# EAGLE library part IF_USB_PD_TPS65987DDHRSHR (library !GPLIB_ACTIVE)
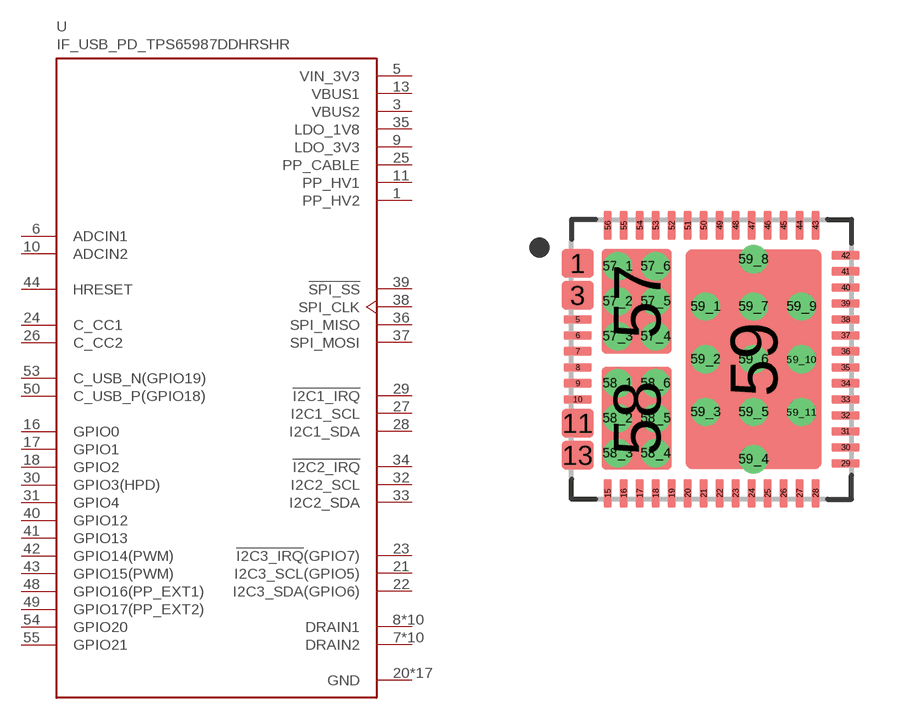
[diagram p42: symbol with the pads of VQFN_56P(7X7); footprint VQFN_56P(7X7)]

Designator prefix U

## IF_USB_PD_TPS65987DDHRSHR  [VQFN_56P(7X7)]
1  PP_HV2  pwr
3  VBUS2  pwr
5  VIN_3V3  pwr
6  ADCIN1  in
7  DRAIN2  pas
8  DRAIN1  pas
9  LDO_3V3  pwr
10  ADCIN2  in
11  PP_HV1  pwr
13  VBUS1  pwr
15  DRAIN1  pas
16  GPIO0
17  GPIO1
18  GPIO2
19  DRAIN1  pas
20  GND  pwr
21  I2C3_SCL(GPIO5)
22  I2C3_SDA(GPIO6)
23  !I2C3_IRQ!(GPIO7)
24  C_CC1
25  PP_CABLE  pwr
26  C_CC2
27  I2C1_SCL
28  I2C1_SDA
29  !I2C1_IRQ  out
30  GPIO3(HPD)
31  GPIO4
32  I2C2_SCL
33  I2C2_SDA
34  !I2C2_IRQ  out
35  LDO_1V8  pwr
36  SPI_MISO
37  SPI_MOSI
38  SPI_CLK
39  !SPI_SS
40  GPIO12
41  GPIO13
42  GPIO14(PWM)
43  GPIO15(PWM)
44  HRESET
45  GND  pwr
46  GND  pwr
47  GND  pwr
48  GPIO16(PP_EXT1)
49  GPIO17(PP_EXT2)
50  C_USB_P(GPIO18)
51  GND  pwr
52  DRAIN2  pas
53  C_USB_N(GPIO19)
54  GPIO20
55  GPIO21
56  DRAIN2  pas
57  DRAIN2  pas
57_1  DRAIN2  pas
57_2  DRAIN2  pas
57_3  DRAIN2  pas
57_4  DRAIN2  pas
57_5  DRAIN2  pas
57_6  DRAIN2  pas
58  DRAIN1  pas
58_1  DRAIN1  pas
58_2  DRAIN1  pas
58_3  DRAIN1  pas
58_4  DRAIN1  pas
58_5  DRAIN1  pas
58_6  DRAIN1  pas
59  GND  pwr
59_1  GND  pwr
59_2  GND  pwr
59_3  GND  pwr
59_4  GND  pwr
59_5  GND  pwr
59_6  GND  pwr
59_7  GND  pwr
59_8  GND  pwr
59_9  GND  pwr
59_10  GND  pwr
59_11  GND  pwr

## Footprint VQFN_56P(7X7) (pad centres in mm)
smd 0.8 x 0.7: 1 -3.35,2.4; 3 -3.35,1.6; 11 -3.35,-1.6; 13 -3.35,-2.4
smd 0.7 x 0.2: 5 -3.35,1; 6 -3.35,0.6; 7 -3.35,0.2; 8 -3.35,-0.2; 9 -3.35,-0.6; 10 -3.35,-1; 29 3.35,-2.6; 30 3.35,-2.2; 31 3.35,-1.8; 32 3.35,-1.4; 33 3.35,-1; 34 3.35,-0.6; 35 3.35,-0.2; 36 3.35,0.2; 37 3.35,0.6; 38 3.35,1; 39 3.35,1.4; 40 3.35,1.8; 41 3.35,2.2; 42 3.35,2.6
smd 0.2 x 0.7: 15 -2.6,-3.35; 16 -2.2,-3.35; 17 -1.8,-3.35; 18 -1.4,-3.35; 19 -1,-3.35; 20 -0.6,-3.35; 21 -0.2,-3.35; 22 0.2,-3.35; 23 0.6,-3.35; 24 1,-3.35; 25 1.4,-3.35; 26 1.8,-3.35; 27 2.2,-3.35; 28 2.6,-3.35; 43 2.6,3.35; 44 2.2,3.35; 45 1.8,3.35; 46 1.4,3.35; 47 1,3.35; 48 0.6,3.35; 49 0.2,3.35; 50 -0.2,3.35; 51 -0.6,3.35; 52 -1,3.35; 53 -1.4,3.35; 54 -1.8,3.35; 55 -2.2,3.35; 56 -2.6,3.35
smd 1.75 x 2.6: 57 -1.875,1.45
drill 0.2 pad 0.4: 57_1 -2.35,2.325; 57_2 -2.35,1.45; 57_3 -2.35,0.575; 57_4 -1.4,0.575; 57_5 -1.4,1.45; 57_6 -1.4,2.325; 58_1 -2.35,-0.6; 58_2 -2.35,-1.475; 58_3 -2.35,-2.35; 58_4 -1.4,-2.35; 58_5 -1.4,-1.475; 58_6 -1.4,-0.6; 59_1 -0.15,1.32; 59_2 -0.15,0; 59_3 -0.15,-1.32; 59_4 1.05,-2.5; 59_5 1.05,-1.32; 59_6 1.05,0; 59_7 1.05,1.32; 59_8 1.05,2.5; 59_9 2.25,1.32; 59_10 2.25,0; 59_11 2.25,-1.32
smd 1.75 x 2.55: 58 -1.875,-1.475
smd 3.4 x 5.5: 59 1.05,0